# Altium footprint library quarter_line.PcbLib: 1 footprints
Each footprint in its own frame and in the unit in brackets; x right, y up, seen from the top. Pads: shape width x height; smd on the part's side, far side on the other; paste and mask are expansions set on the pad; w line width, h text height; cw(c..) or ccw(c..) is an arc to the next point about the centre after c.
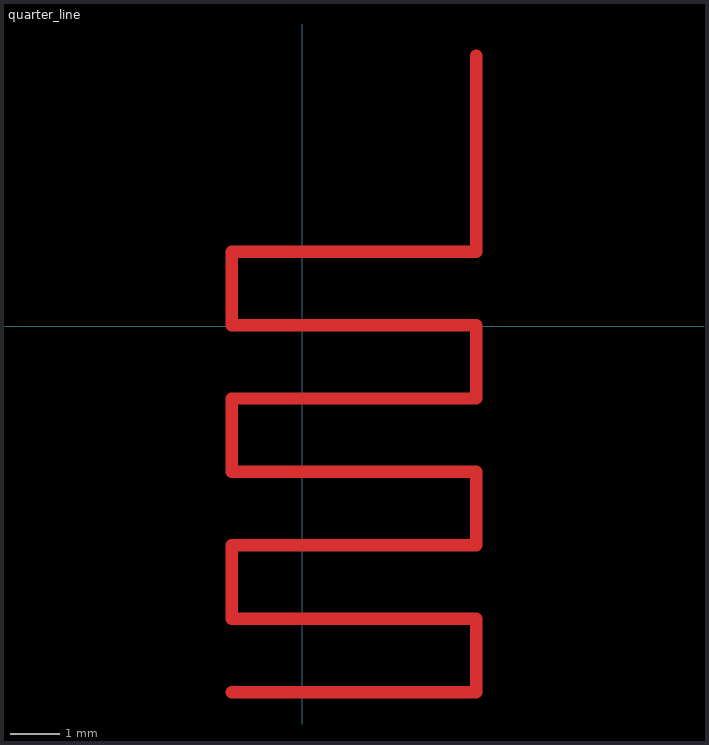
[diagram p0: the footprint, top view; thin cyan lines are the x and y axes]

## quarter_line [mm]
Top Layer:
  lines w0.254: -1.444,-7.476 3.556,-7.476 3.556,-5.976 -1.444,-5.976 -1.444,-4.476 3.556,-4.476 3.556,-2.976 -1.444,-2.976 -1.444,-1.476 3.556,-1.476 3.556,0.024 -1.444,0.024 -1.444,1.524 3.556,1.524 3.556,5.524
  text "51.7mm" at -2.54,-6.604 h1.52